# EAGLE library part LFXP15C_XXF388 (library lattice)
lfxp15c_fpbga388 edit this description Auto generated by make-symbol-device-package-bsdl.ulp Rev. 20 Source: lfxp15c_fpbga388.bsm
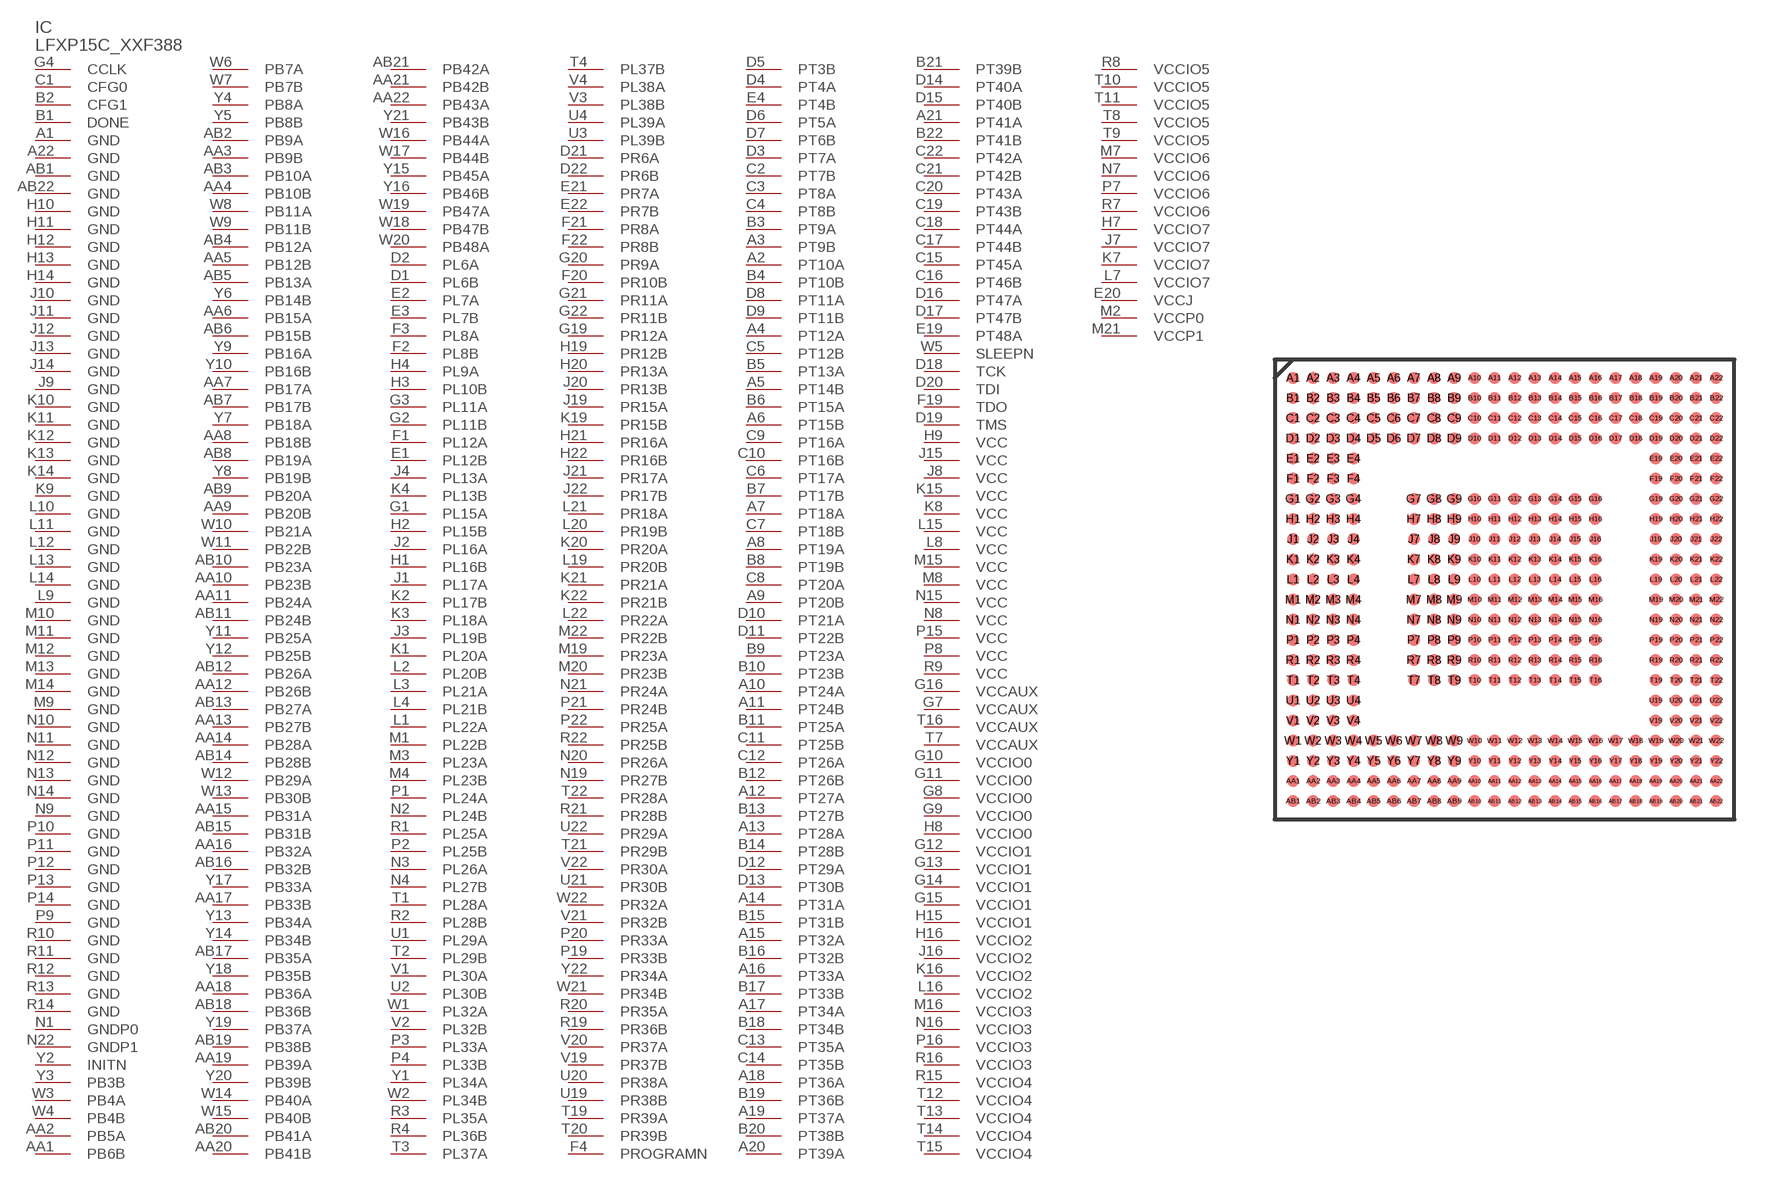
[diagram p24: symbol with the pads of FPBGA388; footprint FPBGA388]

Designator prefix IC

## LFXP15C_XXF388 (OC_FARNELL: unknown; OC_NEWARK: unknown)  [FPBGA388]
A1  GND  pwr
A2  PT10A
A3  PT9B
A4  PT12A
A5  PT14B
A6  PT15B
A7  PT18A
A8  PT19A
A9  PT20B
A10  PT24A
A11  PT24B
A12  PT27A
A13  PT28A
A14  PT31A
A15  PT32A
A16  PT33A
A17  PT34A
A18  PT36A
A19  PT37A
A20  PT39A
A21  PT41A
A22  GND  pwr
AA1  PB6B
AA2  PB5A
AA3  PB9B
AA4  PB10B
AA5  PB12B
AA6  PB15A
AA7  PB17A
AA8  PB18B
AA9  PB20B
AA10  PB23B
AA11  PB24A
AA12  PB26B
AA13  PB27B
AA14  PB28A
AA15  PB31A
AA16  PB32A
AA17  PB33B
AA18  PB36A
AA19  PB39A
AA20  PB41B
AA21  PB42B
AA22  PB43A
AB1  GND  pwr
AB2  PB9A
AB3  PB10A
AB4  PB12A
AB5  PB13A
AB6  PB15B
AB7  PB17B
AB8  PB19A
AB9  PB20A
AB10  PB23A
AB11  PB24B
AB12  PB26A
AB13  PB27A
AB14  PB28B
AB15  PB31B
AB16  PB32B
AB17  PB35A
AB18  PB36B
AB19  PB38B
AB20  PB41A
AB21  PB42A
AB22  GND  pwr
B1  DONE
B2  CFG1  in
B3  PT9A
B4  PT10B
B5  PT13A
B6  PT15A
B7  PT17B
B8  PT19B
B9  PT23A
B10  PT23B
B11  PT25A
B12  PT26B
B13  PT27B
B14  PT28B
B15  PT31B
B16  PT32B
B17  PT33B
B18  PT34B
B19  PT36B
B20  PT38B
B21  PT39B
B22  PT41B
C1  CFG0  in
C2  PT7B
C3  PT8A
C4  PT8B
C5  PT12B
C6  PT17A
C7  PT18B
C8  PT20A
C9  PT16A
C10  PT16B
C11  PT25B
C12  PT26A
C13  PT35A
C14  PT35B
C15  PT45A
C16  PT46B
C17  PT44B
C18  PT44A
C19  PT43B
C20  PT43A
C21  PT42B
C22  PT42A
D1  PL6B
D2  PL6A
D3  PT7A
D4  PT4A
D5  PT3B
D6  PT5A
D7  PT6B
D8  PT11A
D9  PT11B
D10  PT21A
D11  PT22B
D12  PT29A
D13  PT30B
D14  PT40A
D15  PT40B
D16  PT47A
D17  PT47B
D18  TCK  in
D19  TMS  in
D20  TDI  in
D21  PR6A
D22  PR6B
E1  PL12B
E2  PL7A
E3  PL7B
E4  PT4B
E19  PT48A
E20  VCCJ  pwr
E21  PR7A
E22  PR7B
F1  PL12A
F2  PL8B
F3  PL8A
F4  PROGRAMN  in
F19  TDO  out
F20  PR10B
F21  PR8A
F22  PR8B
G1  PL15A
G2  PL11B
G3  PL11A
G4  CCLK
G7  VCCAUX  pwr
G8  VCCIO0  pwr
G9  VCCIO0  pwr
G10  VCCIO0  pwr
G11  VCCIO0  pwr
G12  VCCIO1  pwr
G13  VCCIO1  pwr
G14  VCCIO1  pwr
G15  VCCIO1  pwr
G16  VCCAUX  pwr
G19  PR12A
G20  PR9A
G21  PR11A
G22  PR11B
H1  PL16B
H2  PL15B
H3  PL10B
H4  PL9A
H7  VCCIO7  pwr
H8  VCCIO0  pwr
H9  VCC  pwr
H10  GND  pwr
H11  GND  pwr
H12  GND  pwr
H13  GND  pwr
H14  GND  pwr
H15  VCCIO1  pwr
H16  VCCIO2  pwr
H19  PR12B
H20  PR13A
H21  PR16A
H22  PR16B
J1  PL17A
J2  PL16A
J3  PL19B
J4  PL13A
J7  VCCIO7  pwr
J8  VCC  pwr
J9  GND  pwr
J10  GND  pwr
J11  GND  pwr
J12  GND  pwr
J13  GND  pwr
J14  GND  pwr
J15  VCC  pwr
J16  VCCIO2  pwr
J19  PR15A
J20  PR13B
J21  PR17A
J22  PR17B
K1  PL20A
K2  PL17B
K3  PL18A
K4  PL13B
K7  VCCIO7  pwr
K8  VCC  pwr
K9  GND  pwr
K10  GND  pwr
K11  GND  pwr
K12  GND  pwr
K13  GND  pwr
K14  GND  pwr
K15  VCC  pwr
K16  VCCIO2  pwr
K19  PR15B
K20  PR20A
K21  PR21A
K22  PR21B
L1  PL22A
L2  PL20B
L3  PL21A
L4  PL21B
L7  VCCIO7  pwr
L8  VCC  pwr
L9  GND  pwr
L10  GND  pwr
L11  GND  pwr
L12  GND  pwr
L13  GND  pwr
L14  GND  pwr
L15  VCC  pwr
L16  VCCIO2  pwr
L19  PR20B
L20  PR19B
L21  PR18A
L22  PR22A
M1  PL22B
M2  VCCP0  pwr
M3  PL23A
M4  PL23B
M7  VCCIO6  pwr
M8  VCC  pwr
M9  GND  pwr
M10  GND  pwr
M11  GND  pwr
M12  GND  pwr
M13  GND  pwr
M14  GND  pwr
M15  VCC  pwr
M16  VCCIO3  pwr
M19  PR23A
M20  PR23B
M21  VCCP1  pwr
M22  PR22B
N1  GNDP0  pwr
N2  PL24B
N3  PL26A
N4  PL27B
N7  VCCIO6  pwr
N8  VCC  pwr
N9  GND  pwr
N10  GND  pwr
N11  GND  pwr
N12  GND  pwr
N13  GND  pwr
N14  GND  pwr
N15  VCC  pwr
N16  VCCIO3  pwr
N19  PR27B
N20  PR26A
N21  PR24A
N22  GNDP1  pwr
P1  PL24A
P2  PL25B
P3  PL33A
P4  PL33B
P7  VCCIO6  pwr
P8  VCC  pwr
P9  GND  pwr
P10  GND  pwr
P11  GND  pwr
P12  GND  pwr
P13  GND  pwr
P14  GND  pwr
P15  VCC  pwr
P16  VCCIO3  pwr
P19  PR33B
P20  PR33A
P21  PR24B
P22  PR25A
R1  PL25A
R2  PL28B
R3  PL35A
R4  PL36B
R7  VCCIO6  pwr
R8  VCCIO5  pwr
R9  VCC  pwr
R10  GND  pwr
R11  GND  pwr
R12  GND  pwr
R13  GND  pwr
R14  GND  pwr
R15  VCCIO4  pwr
R16  VCCIO3  pwr
R19  PR36B
R20  PR35A
R21  PR28B
R22  PR25B
T1  PL28A
T2  PL29B
T3  PL37A
T4  PL37B
T7  VCCAUX  pwr
T8  VCCIO5  pwr
T9  VCCIO5  pwr
T10  VCCIO5  pwr
T11  VCCIO5  pwr
T12  VCCIO4  pwr
T13  VCCIO4  pwr
T14  VCCIO4  pwr
T15  VCCIO4  pwr
T16  VCCAUX  pwr
T19  PR39A
T20  PR39B
T21  PR29B
T22  PR28A
U1  PL29A
U2  PL30B
U3  PL39B
U4  PL39A
U19  PR38B
U20  PR38A
U21  PR30B
U22  PR29A
V1  PL30A
V2  PL32B
V3  PL38B
V4  PL38A
V19  PR37B
V20  PR37A
V21  PR32B
V22  PR30A
W1  PL32A
W2  PL34B
W3  PB4A
W4  PB4B
W5  SLEEPN  in
W6  PB7A
W7  PB7B
W8  PB11A
W9  PB11B
W10  PB21A
W11  PB22B
W12  PB29A
W13  PB30B
W14  PB40A
W15  PB40B
W16  PB44A
W17  PB44B
W18  PB47B
W19  PB47A
W20  PB48A
W21  PR34B
W22  PR32A
Y1  PL34A
Y2  INITN
Y3  PB3B
Y4  PB8A
Y5  PB8B
Y6  PB14B
Y7  PB18A
Y8  PB19B
Y9  PB16A
Y10  PB16B
Y11  PB25A
Y12  PB25B
Y13  PB34A
Y14  PB34B
Y15  PB45A
Y16  PB46B
Y17  PB33A
Y18  PB35B
Y19  PB37A
Y20  PB39B
Y21  PB43B
Y22  PR34A

## Footprint FPBGA388 (pad centres in mm)
lfxp10c_fpbga388 edit this description Auto generated by make-symbol-device-package-bsdl.ulp Rev. 20 Source: lfxp10c_fpbga388.bsm
smd 0.6 x 0.6: A1 -10.5,10.5; A2 -9.5,10.5; A3 -8.5,10.5; A4 -7.5,10.5; A5 -6.5,10.5; A6 -5.5,10.5; A7 -4.5,10.5; A8 -3.5,10.5; A9 -2.5,10.5; A10 -1.5,10.5; A11 -0.5,10.5; A12 0.5,10.5; A13 1.5,10.5; A14 2.5,10.5; A15 3.5,10.5; A16 4.5,10.5; A17 5.5,10.5; A18 6.5,10.5; A19 7.5,10.5; A20 8.5,10.5; A21 9.5,10.5; A22 10.5,10.5; AA1 -10.5,-9.5; AA2 -9.5,-9.5; AA3 -8.5,-9.5; AA4 -7.5,-9.5; AA5 -6.5,-9.5; AA6 -5.5,-9.5; AA7 -4.5,-9.5; AA8 -3.5,-9.5; AA9 -2.5,-9.5; AA10 -1.5,-9.5; AA11 -0.5,-9.5; AA12 0.5,-9.5; AA13 1.5,-9.5; AA14 2.5,-9.5; AA15 3.5,-9.5; AA16 4.5,-9.5; AA17 5.5,-9.5; AA18 6.5,-9.5; AA19 7.5,-9.5; AA20 8.5,-9.5; AA21 9.5,-9.5; AA22 10.5,-9.5; AB1 -10.5,-10.5; AB2 -9.5,-10.5; AB3 -8.5,-10.5; AB4 -7.5,-10.5; AB5 -6.5,-10.5; AB6 -5.5,-10.5; AB7 -4.5,-10.5; AB8 -3.5,-10.5; AB9 -2.5,-10.5; AB10 -1.5,-10.5; AB11 -0.5,-10.5; AB12 0.5,-10.5; AB13 1.5,-10.5; AB14 2.5,-10.5; AB15 3.5,-10.5; AB16 4.5,-10.5; AB17 5.5,-10.5; AB18 6.5,-10.5; AB19 7.5,-10.5; AB20 8.5,-10.5; AB21 9.5,-10.5; AB22 10.5,-10.5; B1 -10.5,9.5; B2 -9.5,9.5; B3 -8.5,9.5; B4 -7.5,9.5; B5 -6.5,9.5; B6 -5.5,9.5; B7 -4.5,9.5; B8 -3.5,9.5; B9 -2.5,9.5; B10 -1.5,9.5; B11 -0.5,9.5; B12 0.5,9.5; B13 1.5,9.5; B14 2.5,9.5; B15 3.5,9.5; B16 4.5,9.5; B17 5.5,9.5; B18 6.5,9.5; B19 7.5,9.5; B20 8.5,9.5; B21 9.5,9.5; B22 10.5,9.5; C1 -10.5,8.5; C2 -9.5,8.5; C3 -8.5,8.5; C4 -7.5,8.5; C5 -6.5,8.5; C6 -5.5,8.5; C7 -4.5,8.5; C8 -3.5,8.5; C9 -2.5,8.5; C10 -1.5,8.5; C11 -0.5,8.5; C12 0.5,8.5; C13 1.5,8.5; C14 2.5,8.5; C15 3.5,8.5; C16 4.5,8.5; C17 5.5,8.5; C18 6.5,8.5; C19 7.5,8.5; C20 8.5,8.5; C21 9.5,8.5; C22 10.5,8.5; D1 -10.5,7.5; D2 -9.5,7.5; D3 -8.5,7.5; D4 -7.5,7.5; D5 -6.5,7.5; D6 -5.5,7.5; D7 -4.5,7.5; D8 -3.5,7.5; D9 -2.5,7.5; D10 -1.5,7.5; D11 -0.5,7.5; D12 0.5,7.5; D13 1.5,7.5; D14 2.5,7.5; D15 3.5,7.5; D16 4.5,7.5; D17 5.5,7.5; D18 6.5,7.5; D19 7.5,7.5; D20 8.5,7.5; D21 9.5,7.5; D22 10.5,7.5; E1 -10.5,6.5; E2 -9.5,6.5; E3 -8.5,6.5; E4 -7.5,6.5; E19 7.5,6.5; E20 8.5,6.5; E21 9.5,6.5; E22 10.5,6.5; F1 -10.5,5.5; F2 -9.5,5.5; F3 -8.5,5.5; F4 -7.5,5.5; F19 7.5,5.5; F20 8.5,5.5; F21 9.5,5.5; F22 10.5,5.5; G1 -10.5,4.5; G2 -9.5,4.5; G3 -8.5,4.5; G4 -7.5,4.5; G7 -4.5,4.5; G8 -3.5,4.5; G9 -2.5,4.5; G10 -1.5,4.5; G11 -0.5,4.5; G12 0.5,4.5; G13 1.5,4.5; G14 2.5,4.5; G15 3.5,4.5; G16 4.5,4.5; G19 7.5,4.5; G20 8.5,4.5; G21 9.5,4.5; G22 10.5,4.5; H1 -10.5,3.5; H2 -9.5,3.5; H3 -8.5,3.5; H4 -7.5,3.5; H7 -4.5,3.5; H8 -3.5,3.5; H9 -2.5,3.5; H10 -1.5,3.5; H11 -0.5,3.5; H12 0.5,3.5; H13 1.5,3.5; H14 2.5,3.5; H15 3.5,3.5; H16 4.5,3.5; H19 7.5,3.5; H20 8.5,3.5; H21 9.5,3.5; H22 10.5,3.5; J1 -10.5,2.5; J2 -9.5,2.5; J3 -8.5,2.5; J4 -7.5,2.5; J7 -4.5,2.5; J8 -3.5,2.5; J9 -2.5,2.5; J10 -1.5,2.5; J11 -0.5,2.5; J12 0.5,2.5; J13 1.5,2.5; J14 2.5,2.5; J15 3.5,2.5; J16 4.5,2.5; J19 7.5,2.5; J20 8.5,2.5; J21 9.5,2.5; J22 10.5,2.5; K1 -10.5,1.5; K2 -9.5,1.5; K3 -8.5,1.5; K4 -7.5,1.5; K7 -4.5,1.5; K8 -3.5,1.5; K9 -2.5,1.5; K10 -1.5,1.5; K11 -0.5,1.5; K12 0.5,1.5; K13 1.5,1.5; K14 2.5,1.5; K15 3.5,1.5; K16 4.5,1.5; K19 7.5,1.5; K20 8.5,1.5; K21 9.5,1.5; K22 10.5,1.5; L1 -10.5,0.5; L2 -9.5,0.5; L3 -8.5,0.5; L4 -7.5,0.5; L7 -4.5,0.5; L8 -3.5,0.5; L9 -2.5,0.5; L10 -1.5,0.5; L11 -0.5,0.5; L12 0.5,0.5; L13 1.5,0.5; L14 2.5,0.5; L15 3.5,0.5; L16 4.5,0.5; L19 7.5,0.5; L20 8.5,0.5; L21 9.5,0.5; L22 10.5,0.5; M1 -10.5,-0.5; M2 -9.5,-0.5; M3 -8.5,-0.5; M4 -7.5,-0.5; M7 -4.5,-0.5; M8 -3.5,-0.5; M9 -2.5,-0.5; M10 -1.5,-0.5; M11 -0.5,-0.5; M12 0.5,-0.5; M13 1.5,-0.5; M14 2.5,-0.5; M15 3.5,-0.5; M16 4.5,-0.5; M19 7.5,-0.5; M20 8.5,-0.5; M21 9.5,-0.5; M22 10.5,-0.5; N1 -10.5,-1.5; N2 -9.5,-1.5; N3 -8.5,-1.5; N4 -7.5,-1.5; N7 -4.5,-1.5; N8 -3.5,-1.5; N9 -2.5,-1.5; N10 -1.5,-1.5; N11 -0.5,-1.5; N12 0.5,-1.5; N13 1.5,-1.5; N14 2.5,-1.5; N15 3.5,-1.5; N16 4.5,-1.5; N19 7.5,-1.5; N20 8.5,-1.5; N21 9.5,-1.5; N22 10.5,-1.5; P1 -10.5,-2.5; P2 -9.5,-2.5; P3 -8.5,-2.5; P4 -7.5,-2.5; P7 -4.5,-2.5; P8 -3.5,-2.5; P9 -2.5,-2.5; P10 -1.5,-2.5; P11 -0.5,-2.5; P12 0.5,-2.5; P13 1.5,-2.5; P14 2.5,-2.5; P15 3.5,-2.5; P16 4.5,-2.5; P19 7.5,-2.5; P20 8.5,-2.5; P21 9.5,-2.5; P22 10.5,-2.5; R1 -10.5,-3.5; R2 -9.5,-3.5; R3 -8.5,-3.5; R4 -7.5,-3.5; R7 -4.5,-3.5; R8 -3.5,-3.5; R9 -2.5,-3.5; R10 -1.5,-3.5; R11 -0.5,-3.5; R12 0.5,-3.5; R13 1.5,-3.5; R14 2.5,-3.5; R15 3.5,-3.5; R16 4.5,-3.5; R19 7.5,-3.5; R20 8.5,-3.5; R21 9.5,-3.5; R22 10.5,-3.5; T1 -10.5,-4.5; T2 -9.5,-4.5; T3 -8.5,-4.5; T4 -7.5,-4.5; T7 -4.5,-4.5; T8 -3.5,-4.5; T9 -2.5,-4.5; T10 -1.5,-4.5; T11 -0.5,-4.5; T12 0.5,-4.5; T13 1.5,-4.5; T14 2.5,-4.5; T15 3.5,-4.5; T16 4.5,-4.5; T19 7.5,-4.5; T20 8.5,-4.5; T21 9.5,-4.5; T22 10.5,-4.5; U1 -10.5,-5.5; U2 -9.5,-5.5; U3 -8.5,-5.5; U4 -7.5,-5.5; U19 7.5,-5.5; U20 8.5,-5.5; U21 9.5,-5.5; U22 10.5,-5.5; V1 -10.5,-6.5; V2 -9.5,-6.5; V3 -8.5,-6.5; V4 -7.5,-6.5; V19 7.5,-6.5; V20 8.5,-6.5; V21 9.5,-6.5; V22 10.5,-6.5; W1 -10.5,-7.5; W2 -9.5,-7.5; W3 -8.5,-7.5; W4 -7.5,-7.5; W5 -6.5,-7.5; W6 -5.5,-7.5; W7 -4.5,-7.5; W8 -3.5,-7.5; W9 -2.5,-7.5; W10 -1.5,-7.5; W11 -0.5,-7.5; W12 0.5,-7.5; W13 1.5,-7.5; W14 2.5,-7.5; W15 3.5,-7.5; W16 4.5,-7.5; W17 5.5,-7.5; W18 6.5,-7.5; W19 7.5,-7.5; W20 8.5,-7.5; W21 9.5,-7.5; W22 10.5,-7.5; Y1 -10.5,-8.5; Y2 -9.5,-8.5; Y3 -8.5,-8.5; Y4 -7.5,-8.5; Y5 -6.5,-8.5; Y6 -5.5,-8.5; Y7 -4.5,-8.5; Y8 -3.5,-8.5; Y9 -2.5,-8.5; Y10 -1.5,-8.5; Y11 -0.5,-8.5; Y12 0.5,-8.5; Y13 1.5,-8.5; Y14 2.5,-8.5; Y15 3.5,-8.5; Y16 4.5,-8.5; Y17 5.5,-8.5; Y18 6.5,-8.5; Y19 7.5,-8.5; Y20 8.5,-8.5; Y21 9.5,-8.5; Y22 10.5,-8.5